# EAGLE library part TSW-150-02-S-T (library con-samtec)
THROUGH-HOLE .025" SQ POST HEADER Source: Samtec TSW.pdf
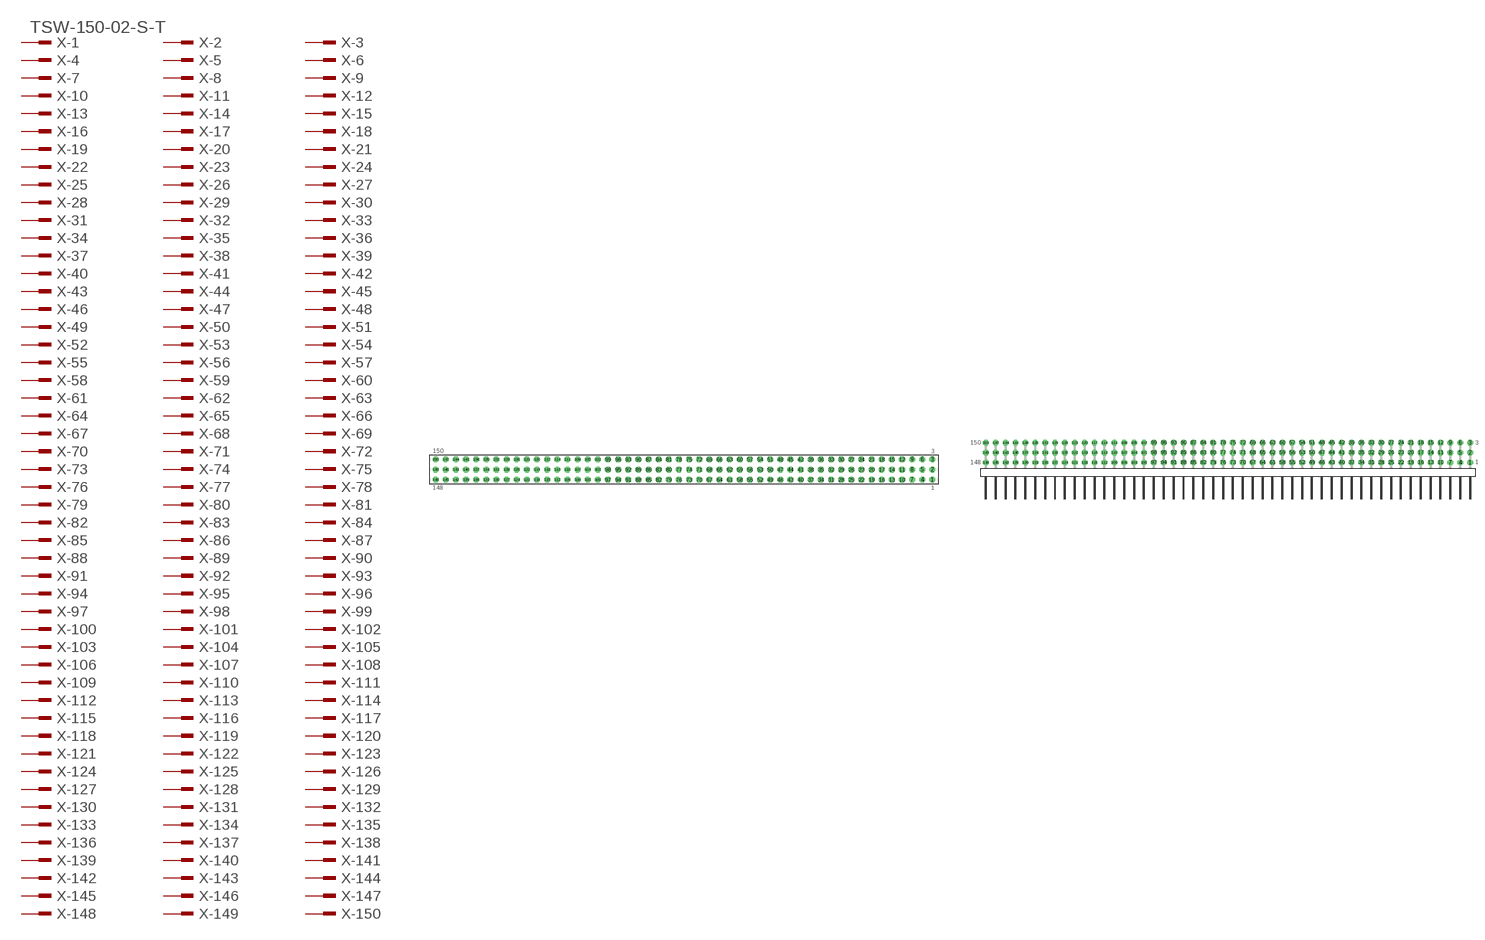
[diagram p146: symbol with the pads of TSW-150-02-S-T; footprints TSW-150-02-S-T, TSW-150-02-S-T-RA]

Designator prefix X; gates -1=MPINV -2=MPIN -3=MPIN -4=MPIN -5=MPIN -6=MPIN -7=MPIN -8=MPIN -9=MPIN -10=MPIN -11=MPIN -12=MPIN -13=MPIN -14=MPIN -15=MPIN -16=MPIN -17=MPIN -18=MPIN -19=MPIN -20=MPIN -21=MPIN -22=MPIN -23=MPIN -24=MPIN -25=MPIN -26=MPIN -27=MPIN -28=MPIN -29=MPIN -30=MPIN -31=MPIN -32=MPIN -33=MPIN -34=MPIN -35=MPIN -36=MPIN -37=MPIN -38=MPIN -39=MPIN -40=MPIN -41=MPIN -42=MPIN -43=MPIN -44=MPIN -45=MPIN -46=MPIN -47=MPIN -48=MPIN -49=MPIN -50=MPIN -51=MPIN -52=MPIN -53=MPIN -54=MPIN -55=MPIN -56=MPIN -57=MPIN -58=MPIN -59=MPIN -60=MPIN -61=MPIN -62=MPIN -63=MPIN -64=MPIN -65=MPIN -66=MPIN -67=MPIN -68=MPIN -69=MPIN -70=MPIN -71=MPIN -72=MPIN -73=MPIN -74=MPIN -75=MPIN -76=MPIN -77=MPIN -78=MPIN -79=MPIN -80=MPIN -81=MPIN -82=MPIN -83=MPIN -84=MPIN -85=MPIN -86=MPIN -87=MPIN -88=MPIN -89=MPIN -90=MPIN -91=MPIN -92=MPIN -93=MPIN -94=MPIN -95=MPIN -96=MPIN -97=MPIN -98=MPIN -99=MPIN -100=MPIN -101=MPIN -102=MPIN -103=MPIN -104=MPIN -105=MPIN -106=MPIN -107=MPIN -108=MPIN -109=MPIN -110=MPIN -111=MPIN -112=MPIN -113=MPIN -114=MPIN -115=MPIN -116=MPIN -117=MPIN -118=MPIN -119=MPIN -120=MPIN -121=MPIN -122=MPIN -123=MPIN -124=MPIN -125=MPIN -126=MPIN -127=MPIN -128=MPIN -129=MPIN -130=MPIN -131=MPIN -132=MPIN -133=MPIN -134=MPIN -135=MPIN -136=MPIN -137=MPIN -138=MPIN -139=MPIN -140=MPIN -141=MPIN -142=MPIN -143=MPIN -144=MPIN -145=MPIN -146=MPIN -147=MPIN -148=MPIN -149=MPIN -150=MPIN

## TSW-150-02-S-T  [TSW-150-02-S-T]
1  -1:1  pas
2  -2:1  pas
3  -3:1  pas
4  -4:1  pas
5  -5:1  pas
6  -6:1  pas
7  -7:1  pas
8  -8:1  pas
9  -9:1  pas
10  -10:1  pas
11  -11:1  pas
12  -12:1  pas
13  -13:1  pas
14  -14:1  pas
15  -15:1  pas
16  -16:1  pas
17  -17:1  pas
18  -18:1  pas
19  -19:1  pas
20  -20:1  pas
21  -21:1  pas
22  -22:1  pas
23  -23:1  pas
24  -24:1  pas
25  -25:1  pas
26  -26:1  pas
27  -27:1  pas
28  -28:1  pas
29  -29:1  pas
30  -30:1  pas
31  -31:1  pas
32  -32:1  pas
33  -33:1  pas
34  -34:1  pas
35  -35:1  pas
36  -36:1  pas
37  -37:1  pas
38  -38:1  pas
39  -39:1  pas
40  -40:1  pas
41  -41:1  pas
42  -42:1  pas
43  -43:1  pas
44  -44:1  pas
45  -45:1  pas
46  -46:1  pas
47  -47:1  pas
48  -48:1  pas
49  -49:1  pas
50  -50:1  pas
51  -51:1  pas
52  -52:1  pas
53  -53:1  pas
54  -54:1  pas
55  -55:1  pas
56  -56:1  pas
57  -57:1  pas
58  -58:1  pas
59  -59:1  pas
60  -60:1  pas
61  -61:1  pas
62  -62:1  pas
63  -63:1  pas
64  -64:1  pas
65  -65:1  pas
66  -66:1  pas
67  -67:1  pas
68  -68:1  pas
69  -69:1  pas
70  -70:1  pas
71  -71:1  pas
72  -72:1  pas
73  -73:1  pas
74  -74:1  pas
75  -75:1  pas
76  -76:1  pas
77  -77:1  pas
78  -78:1  pas
79  -79:1  pas
80  -80:1  pas
81  -81:1  pas
82  -82:1  pas
83  -83:1  pas
84  -84:1  pas
85  -85:1  pas
86  -86:1  pas
87  -87:1  pas
88  -88:1  pas
89  -89:1  pas
90  -90:1  pas
91  -91:1  pas
92  -92:1  pas
93  -93:1  pas
94  -94:1  pas
95  -95:1  pas
96  -96:1  pas
97  -97:1  pas
98  -98:1  pas
99  -99:1  pas
100  -100:1  pas
101  -101:1  pas
102  -102:1  pas
103  -103:1  pas
104  -104:1  pas
105  -105:1  pas
106  -106:1  pas
107  -107:1  pas
108  -108:1  pas
109  -109:1  pas
110  -110:1  pas
111  -111:1  pas
112  -112:1  pas
113  -113:1  pas
114  -114:1  pas
115  -115:1  pas
116  -116:1  pas
117  -117:1  pas
118  -118:1  pas
119  -119:1  pas
120  -120:1  pas
121  -121:1  pas
122  -122:1  pas
123  -123:1  pas
124  -124:1  pas
125  -125:1  pas
126  -126:1  pas
127  -127:1  pas
128  -128:1  pas
129  -129:1  pas
130  -130:1  pas
131  -131:1  pas
132  -132:1  pas
133  -133:1  pas
134  -134:1  pas
135  -135:1  pas
136  -136:1  pas
137  -137:1  pas
138  -138:1  pas
139  -139:1  pas
140  -140:1  pas
141  -141:1  pas
142  -142:1  pas
143  -143:1  pas
144  -144:1  pas
145  -145:1  pas
146  -146:1  pas
147  -147:1  pas
148  -148:1  pas
149  -149:1  pas
150  -150:1  pas

## TSW-150-02-S-T-RA  [TSW-150-02-S-T-RA]
Pads as for TSW-150-02-S-T

## Footprint TSW-150-02-S-T (pad centres in mm)
THROUGH-HOLE .025" SQ POST HEADER Source: Samtec TSW.pdf
drill 1 pad 1.5 octagon: 1 62.23,-2.54; 2 62.23,0; 3 62.23,2.54; 4 59.69,-2.54; 5 59.69,0; 6 59.69,2.54; 7 57.15,-2.54; 8 57.15,0; 9 57.15,2.54; 10 54.61,-2.54; 11 54.61,0; 12 54.61,2.54; 13 52.07,-2.54; 14 52.07,0; 15 52.07,2.54; 16 49.53,-2.54; 17 49.53,0; 18 49.53,2.54; 19 46.99,-2.54; 20 46.99,0; 21 46.99,2.54; 22 44.45,-2.54; 23 44.45,0; 24 44.45,2.54; 25 41.91,-2.54; 26 41.91,0; 27 41.91,2.54; 28 39.37,-2.54; 29 39.37,0; 30 39.37,2.54; 31 36.83,-2.54; 32 36.83,0; 33 36.83,2.54; 34 34.29,-2.54; 35 34.29,0; 36 34.29,2.54; 37 31.75,-2.54; 38 31.75,0; 39 31.75,2.54; 40 29.21,-2.54; 41 29.21,0; 42 29.21,2.54; 43 26.67,-2.54; 44 26.67,0; 45 26.67,2.54; 46 24.13,-2.54; 47 24.13,0; 48 24.13,2.54; 49 21.59,-2.54; 50 21.59,0; 51 21.59,2.54; 52 19.05,-2.54; 53 19.05,0; 54 19.05,2.54; 55 16.51,-2.54; 56 16.51,0; 57 16.51,2.54; 58 13.97,-2.54; 59 13.97,0; 60 13.97,2.54; 61 11.43,-2.54; 62 11.43,0; 63 11.43,2.54; 64 8.89,-2.54; 65 8.89,0; 66 8.89,2.54; 67 6.35,-2.54; 68 6.35,0; 69 6.35,2.54; 70 3.81,-2.54; 71 3.81,0; 72 3.81,2.54; 73 1.27,-2.54; 74 1.27,0; 75 1.27,2.54; 76 -1.27,-2.54; 77 -1.27,0; 78 -1.27,2.54; 79 -3.81,-2.54; 80 -3.81,0; 81 -3.81,2.54; 82 -6.35,-2.54; 83 -6.35,0; 84 -6.35,2.54; 85 -8.89,-2.54; 86 -8.89,0; 87 -8.89,2.54; 88 -11.43,-2.54; 89 -11.43,0; 90 -11.43,2.54; 91 -13.97,-2.54; 92 -13.97,0; 93 -13.97,2.54; 94 -16.51,-2.54; 95 -16.51,0; 96 -16.51,2.54; 97 -19.05,-2.54; 98 -19.05,0; 99 -19.05,2.54; 100 -21.59,-2.54; 101 -21.59,0; 102 -21.59,2.54; 103 -24.13,-2.54; 104 -24.13,0; 105 -24.13,2.54; 106 -26.67,-2.54; 107 -26.67,0; 108 -26.67,2.54; 109 -29.21,-2.54; 110 -29.21,0; 111 -29.21,2.54; 112 -31.75,-2.54; 113 -31.75,0; 114 -31.75,2.54; 115 -34.29,-2.54; 116 -34.29,0; 117 -34.29,2.54; 118 -36.83,-2.54; 119 -36.83,0; 120 -36.83,2.54; 121 -39.37,-2.54; 122 -39.37,0; 123 -39.37,2.54; 124 -41.91,-2.54; 125 -41.91,0; 126 -41.91,2.54; 127 -44.45,-2.54; 128 -44.45,0; 129 -44.45,2.54; 130 -46.99,-2.54; 131 -46.99,0; 132 -46.99,2.54; 133 -49.53,-2.54; 134 -49.53,0; 135 -49.53,2.54; 136 -52.07,-2.54; 137 -52.07,0; 138 -52.07,2.54; 139 -54.61,-2.54; 140 -54.61,0; 141 -54.61,2.54; 142 -57.15,-2.54; 143 -57.15,0; 144 -57.15,2.54; 145 -59.69,-2.54; 146 -59.69,0; 147 -59.69,2.54; 148 -62.23,-2.54; 149 -62.23,0; 150 -62.23,2.54

## Footprint TSW-150-02-S-T-RA (pad centres in mm)
THROUGH-HOLE .025" SQ POST HEADER Source: SamtechTSW.pdf
drill 1 pad 1.5 octagon: 1 62.23,1.524; 2 62.23,4.064; 3 62.23,6.604; 4 59.69,1.524; 5 59.69,4.064; 6 59.69,6.604; 7 57.15,1.524; 8 57.15,4.064; 9 57.15,6.604; 10 54.61,1.524; 11 54.61,4.064; 12 54.61,6.604; 13 52.07,1.524; 14 52.07,4.064; 15 52.07,6.604; 16 49.53,1.524; 17 49.53,4.064; 18 49.53,6.604; 19 46.99,1.524; 20 46.99,4.064; 21 46.99,6.604; 22 44.45,1.524; 23 44.45,4.064; 24 44.45,6.604; 25 41.91,1.524; 26 41.91,4.064; 27 41.91,6.604; 28 39.37,1.524; 29 39.37,4.064; 30 39.37,6.604; 31 36.83,1.524; 32 36.83,4.064; 33 36.83,6.604; 34 34.29,1.524; 35 34.29,4.064; 36 34.29,6.604; 37 31.75,1.524; 38 31.75,4.064; 39 31.75,6.604; 40 29.21,1.524; 41 29.21,4.064; 42 29.21,6.604; 43 26.67,1.524; 44 26.67,4.064; 45 26.67,6.604; 46 24.13,1.524; 47 24.13,4.064; 48 24.13,6.604; 49 21.59,1.524; 50 21.59,4.064; 51 21.59,6.604; 52 19.05,1.524; 53 19.05,4.064; 54 19.05,6.604; 55 16.51,1.524; 56 16.51,4.064; 57 16.51,6.604; 58 13.97,1.524; 59 13.97,4.064; 60 13.97,6.604; 61 11.43,1.524; 62 11.43,4.064; 63 11.43,6.604; 64 8.89,1.524; 65 8.89,4.064; 66 8.89,6.604; 67 6.35,1.524; 68 6.35,4.064; 69 6.35,6.604; 70 3.81,1.524; 71 3.81,4.064; 72 3.81,6.604; 73 1.27,1.524; 74 1.27,4.064; 75 1.27,6.604; 76 -1.27,1.524; 77 -1.27,4.064; 78 -1.27,6.604; 79 -3.81,1.524; 80 -3.81,4.064; 81 -3.81,6.604; 82 -6.35,1.524; 83 -6.35,4.064; 84 -6.35,6.604; 85 -8.89,1.524; 86 -8.89,4.064; 87 -8.89,6.604; 88 -11.43,1.524; 89 -11.43,4.064; 90 -11.43,6.604; 91 -13.97,1.524; 92 -13.97,4.064; 93 -13.97,6.604; 94 -16.51,1.524; 95 -16.51,4.064; 96 -16.51,6.604; 97 -19.05,1.524; 98 -19.05,4.064; 99 -19.05,6.604; 100 -21.59,1.524; 101 -21.59,4.064; 102 -21.59,6.604; 103 -24.13,1.524; 104 -24.13,4.064; 105 -24.13,6.604; 106 -26.67,1.524; 107 -26.67,4.064; 108 -26.67,6.604; 109 -29.21,1.524; 110 -29.21,4.064; 111 -29.21,6.604; 112 -31.75,1.524; 113 -31.75,4.064; 114 -31.75,6.604; 115 -34.29,1.524; 116 -34.29,4.064; 117 -34.29,6.604; 118 -36.83,1.524; 119 -36.83,4.064; 120 -36.83,6.604; 121 -39.37,1.524; 122 -39.37,4.064; 123 -39.37,6.604; 124 -41.91,1.524; 125 -41.91,4.064; 126 -41.91,6.604; 127 -44.45,1.524; 128 -44.45,4.064; 129 -44.45,6.604; 130 -46.99,1.524; 131 -46.99,4.064; 132 -46.99,6.604; 133 -49.53,1.524; 134 -49.53,4.064; 135 -49.53,6.604; 136 -52.07,1.524; 137 -52.07,4.064; 138 -52.07,6.604; 139 -54.61,1.524; 140 -54.61,4.064; 141 -54.61,6.604; 142 -57.15,1.524; 143 -57.15,4.064; 144 -57.15,6.604; 145 -59.69,1.524; 146 -59.69,4.064; 147 -59.69,6.604; 148 -62.23,1.524; 149 -62.23,4.064; 150 -62.23,6.604